# EAGLE library part MBT-44+ (library MBT-44+)
MMIC BIAS TEE,50 10 to 40 GHz , 8L MCLP package Source: Datasheet <https://www.minicircuits.com/pdfs/MBT-44 .pdf>
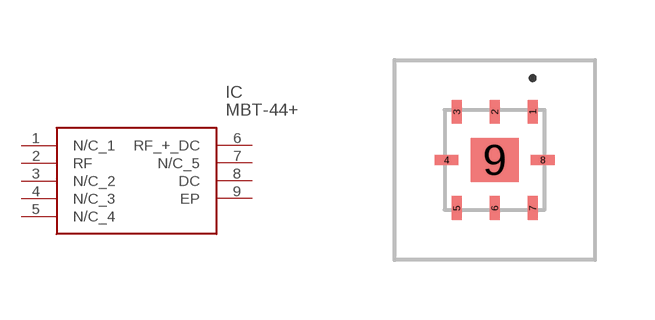
[diagram p0: symbol with the pads of MBT44; footprint MBT44]

Designator prefix IC

## MBT-44+ (Description: MMIC BIAS TEE,50 10 to 40 GHz , 8L MCLP package; Height: 0.95mm; Manufacturer_Name: Mini-Circuits; Manufacturer_Part_Number: MBT-44+; Mouser_Part_Number: 139-MBT-44+; Mouser_Price-Stock: https://www.mouser.co.uk/ProductDetail/Mini-Circuits/MBT-44%2b?qs=3pZoU%2F6IRTgNg5fQOAQ8QA%3D%3D)  [MBT44]
1  N/C_1
2  RF
3  N/C_2
4  N/C_3
5  N/C_4
6  RF_+_DC
7  N/C_5
8  DC
9  EP

## Footprint MBT44 (pad centres in mm)
MBT-44+-1
smd 0.25 x 0.6: 1 0.95,1.205; 2 0,1.205; 3 -0.95,1.205; 5 -0.95,-1.205; 6 0,-1.205; 7 0.95,-1.205
smd 0.6 x 0.25: 4 -1.205,0; 8 1.205,0
smd 1.2 x 1.1: 9 0,0.005